# EAGLE library part 100DP6T1B1M6QEH (library 100DP6T1B1M6QEH)
TOGGLE, 5A, 120VAC/28VDC DPDT, On-On-On Panel Mount, Right Angle Source: Datasheet <https://configured-product-images.s3.amazonaws.com/2D/specs/100DP6T1B1M6QEH.pdf>
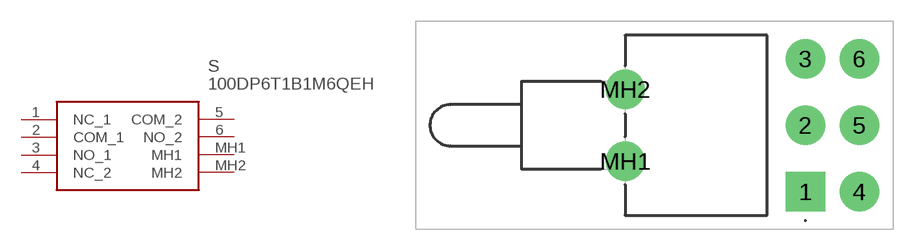
[diagram p0: symbol with the pads of 100DP6T1B1M6QEH; footprint 100DP6T1B1M6QEH]

Designator prefix S

## 100DP6T1B1M6QEH (Description: TOGGLE, 5A, 120VAC/28VDC DPDT, On-On-On Panel Mount, Right Angle; Height: 11.43mm; Manufacturer_Name: E-Switch; Manufacturer_Part_Number: 100DP6T1B1M6QEH; Mouser_Part_Number: 612-100DP6T1B1M6QEH; Mouser_Price-Stock: https://www.mouser.co.uk/ProductDetail/E-Switch/100DP6T1B1M6QEH?qs=f57gQzlyLiqJaVfqjUPBDA%3D%3D)  [100DP6T1B1M6QEH]
1  NC_1
2  COM_1
3  NO_1
4  NC_2
5  COM_2
6  NO_2
MH1  MH1
MH2  MH2

## Footprint 100DP6T1B1M6QEH (pad centres in mm)
100DP6T1B1M6QEH-2
drill 1.85 pad 2.775 square: 1 0,0
drill 1.85 pad 2.775: 2 0,4.69; 3 0,9.38; 4 3.81,0; 5 3.81,4.69; 6 3.81,9.38; MH1 -12.7,2.15; MH2 -12.7,7.23